# EAGLE library part LT1073CN8 (library Neel)
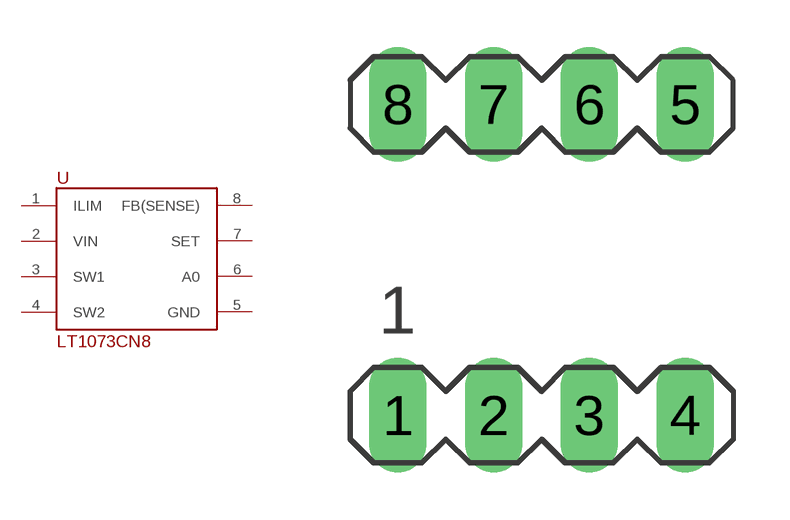
[diagram p6: symbol with the pads of DIP-8; footprint DIP-8]

Designator prefix -

## LT1073CN8  [DIP-8]
1  ILIM
2  VIN
3  SW1
4  SW2
5  GND
6  A0
7  SET
8  FB(SENSE)

## Footprint DIP-8 (pad centres in mm)
drill 1.016 long: 1 -3.81,-3.81; 2 -1.27,-3.81; 3 1.27,-3.81; 4 3.81,-3.81; 5 3.81,4.445; 6 1.27,4.445; 7 -1.27,4.445; 8 -3.81,4.445